# EAGLE library part TEENSY_4.1 (library Hocki_library )
Teensy 4.1 features the fastest micocontroller and an expanded set of powerful peripherals in a 2.4 by 0.7 inch form factor. DigiKey <https://www.digikey.com/product-detail/en/sparkfun-electronics/DEV-16771/1568-DEV-16771-ND/12180099>
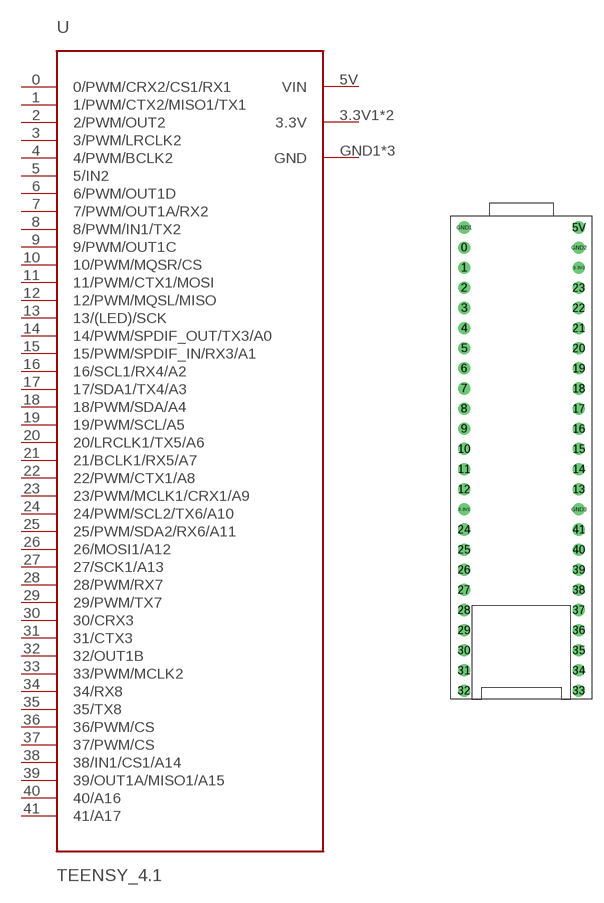
[diagram p2: symbol with the pads of TEENSY_4.1; footprint TEENSY_4.1]

Designator prefix U

## TEENSY_4.1 (DKPN: 1568-DEV-16771-ND)  [TEENSY_4.1]
0  0/PWM/CRX2/CS1/RX1  pas
1  1/PWM/CTX2/MISO1/TX1  pas
2  2/PWM/OUT2  pas
3  3/PWM/LRCLK2  pas
3.3V1  3.3V  pas
3.3V2  3.3V  pas
4  4/PWM/BCLK2  pas
5  5/IN2  pas
5V  VIN  pas
6  6/PWM/OUT1D  pas
7  7/PWM/OUT1A/RX2  pas
8  8/PWM/IN1/TX2  pas
9  9/PWM/OUT1C  pas
10  10/PWM/MQSR/CS  pas
11  11/PWM/CTX1/MOSI  pas
12  12/PWM/MQSL/MISO  pas
13  13/(LED)/SCK  pas
14  14/PWM/SPDIF_OUT/TX3/A0  pas
15  15/PWM/SPDIF_IN/RX3/A1  pas
16  16/SCL1/RX4/A2  pas
17  17/SDA1/TX4/A3  pas
18  18/PWM/SDA/A4  pas
19  19/PWM/SCL/A5  pas
20  20/LRCLK1/TX5/A6  pas
21  21/BCLK1/RX5/A7  pas
22  22/PWM/CTX1/A8  pas
23  23/PWM/MCLK1/CRX1/A9  pas
24  24/PWM/SCL2/TX6/A10  pas
25  25/PWM/SDA2/RX6/A11  pas
26  26/MOSI1/A12  pas
27  27/SCK1/A13  pas
28  28/PWM/RX7  pas
29  29/PWM/TX7  pas
30  30/CRX3  pas
31  31/CTX3  pas
32  32/OUT1B  pas
33  33/PWM/MCLK2  pas
34  34/RX8  pas
35  35/TX8  pas
36  36/PWM/CS  pas
37  37/PWM/CS  pas
38  38/IN1/CS1/A14  pas
39  39/OUT1A/MISO1/A15  pas
40  40/A16  pas
41  41/A17  pas
GND1  GND  pas
GND2  GND  pas
GND3  GND  pas

## Footprint TEENSY_4.1 (pad centres in mm)
drill 1.016: 0 -7.24,27.46; 1 -7.24,24.92; 2 -7.24,22.38; 3 -7.24,19.84; 3.3V1 -7.24,-5.56; 3.3V2 7.24,24.92; 4 -7.24,17.3; 5 -7.24,14.76; 5V 7.24,30; 6 -7.24,12.22; 7 -7.24,9.68; 8 -7.24,7.14; 9 -7.24,4.6; 10 -7.24,2.06; 11 -7.24,-0.48; 12 -7.24,-3.02; 13 7.24,-3.02; 14 7.24,-0.48; 15 7.24,2.06; 16 7.24,4.6; 17 7.24,7.14; 18 7.24,9.68; 19 7.24,12.22; 20 7.24,14.76; 21 7.24,17.3; 22 7.24,19.84; 23 7.24,22.38; 24 -7.24,-8.1; 25 -7.24,-10.64; 26 -7.24,-13.18; 27 -7.24,-15.72; 28 -7.24,-18.26; 29 -7.24,-20.8; 30 -7.24,-23.34; 31 -7.24,-25.88; 32 -7.24,-28.42; 33 7.24,-28.42; 34 7.24,-25.88; 35 7.24,-23.34; 36 7.24,-20.8; 37 7.24,-18.26; 38 7.24,-15.72; 39 7.24,-13.18; 40 7.24,-10.64; 41 7.24,-8.1; GND1 -7.24,30; GND2 7.24,27.46; GND3 7.24,-5.56